# Altium footprint library WR-SMA.PcbLib: 26 footprints (part 2 of 2)
Each footprint in its own frame and in the unit in brackets; x right, y up, seen from the top. Pads: shape width x height; smd on the part's side, far side on the other; paste and mask are expansions set on the pad; w line width, h text height; cw(c..) or ccw(c..) is an arc to the next point about the centre after c.
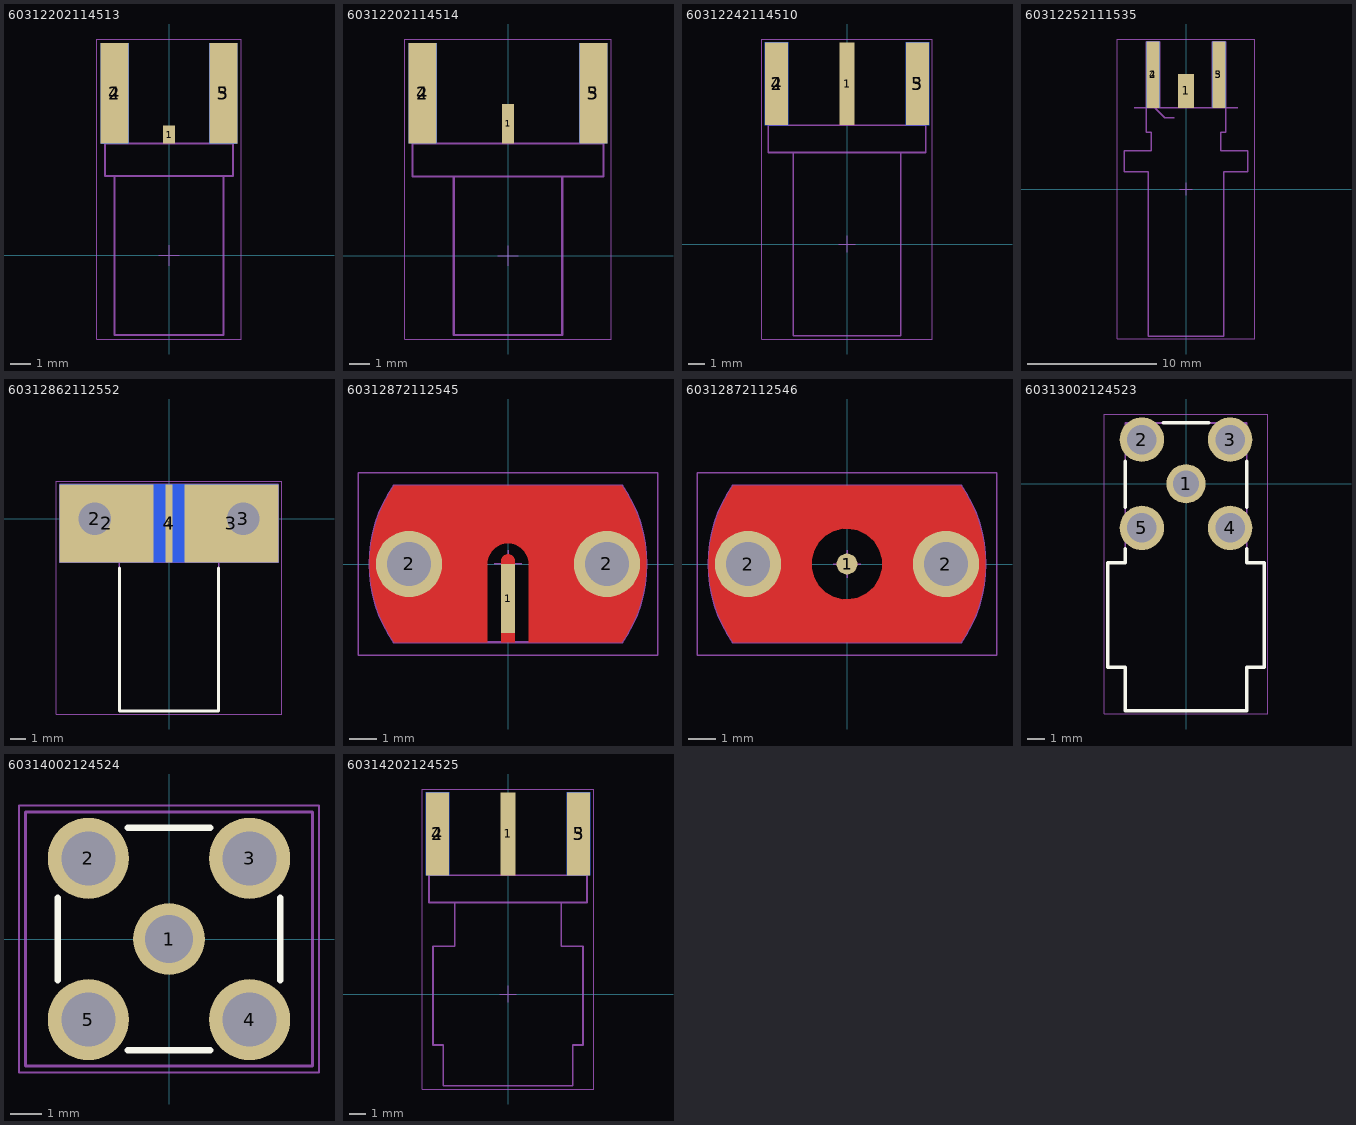
[diagram p1: the footprints below, top view; thin cyan lines are the x and y axes]

## 60312202114513 [mm] "SMA PCB End Launch Jack Flat Tab  6.35SQ Flange for 1.6mm PCB"
height 6.35
pads (5):
  rect 0.61x0.9 smd: 1(0,6)
  rect 1.4x5 smd: 2(-2.7,8.05) 3(2.7,8.05)
  rect 1.4x5 smd far side: 4(-2.7,8.05) 5(2.7,8.05)
Top Designator:
  text ".Designator" at -7.498,-0.5 h1.5
Top Notes (Mech5):
  lines w0.1: -3.175,5.55 3.175,5.55
  text "PCB Thickness 1.6mm" at -3.6,-4.65 h0.8
  text "PCB End" at -1.4,4.85 h0.8
Top Component Outline:
  lines w0.1: -2.7,3.95 -2.7,-3.95 2.7,-3.95 2.7,3.95 ; -3.175,3.95 -3.175,10.25 -2.175,10.25 -2.175,5.55 -0.255,5.55 -0.255,6.35 0.255,6.35 0.255,5.55 2.175,5.55 2.175,10.25 3.175,10.25 3.175,3.95 -3.175,3.95
Top Courtyard:
  lines w0.05: -0.5,0 0.5,0 ; 0,-0.5 0,0.5 ; -3.6,-4.15 -3.6,10.75 3.6,10.75 3.6,-4.15 -3.6,-4.15
3D body "60312202114513.stp": height 3.34, standoff -3.01, extent -3.175,-3.95 3.175,10.25

## 60312202114514 [mm] "SMA PCB End Launch Jack Flat  Tab for 1.6mm PCB"
height 7.92
pads (5):
  rect 0.61x1.97 smd: 1(0,6.57)
  rect 1.4x5 smd: 2(-4.25,8.085) 3(4.25,8.085)
  rect 1.4x5 smd far side: 4(-4.25,8.085) 5(4.25,8.085)
Top Designator:
  text ".Designator" at -7.498,-0.5 h1.5
Top Notes (Mech5):
  lines w0.1: -4.76,5.585 4.76,5.585
  text "PCB Thickness 1.6mm" at -3.7,-4.615 h0.8
  text "PCB End" at -1.5,4.885 h0.8
Top Component Outline:
  lines w0.1: -2.7,3.945 -2.7,-3.945 2.7,-3.945 2.7,3.945 ; -4.76,3.945 4.76,3.945 4.76,10.345 3.74,10.345 3.74,5.585 0.255,5.585 0.255,7.485 -0.255,7.485 -0.255,5.585 -3.74,5.585 -3.74,10.345 -4.76,10.345 -4.76,3.945
Top Courtyard:
  lines w0.05: -0.5,0 0.5,0 ; 0,-0.5 0,0.5 ; -5.15,-4.145 -5.15,10.785 5.15,10.785 5.15,-4.145 -5.15,-4.145
3D body "60312202114514.stp": height 4.08, standoff -3.85, extent -4.76,-3.945 4.76,10.345

## 60312242114510 [mm] "SMA PCB End Launch Jack Round  Post Rear Mount Bulkhead for  1.6mm PCB"
height 9.52
pads (5):
  rect 0.9x5 smd: 1(0,9.675)
  rect 1.4x5 smd: 2(-4.25,9.675) 3(4.25,9.675)
  rect 1.4x5 smd far side: 4(-4.25,9.675) 5(4.25,9.675)
Top Designator:
  text ".Designator" at -7.498,-0.5 h1.5
Top Notes (Mech5):
  lines w0.1: -4.76,7.175 4.76,7.175
  text "PCB Thickness 1.6mm" at -3.6,-6.325 h0.8
  text "PCB End" at -1.3,6.475 h0.8
Top Component Outline:
  lines w0.1: -3.25,5.525 -3.25,-5.525 3.25,-5.525 3.25,5.525 ; -4.76,5.525 4.76,5.525 4.76,11.925 3.74,11.925 3.74,7.175 0.38,7.175 0.38,11.925 -0.38,11.925 -0.38,7.175 -3.74,7.175 -3.74,11.925 -4.76,11.925 -4.76,5.525
Top Courtyard:
  lines w0.05: -0.5,0 0.5,0 ; 0,-0.5 0,0.5 ; -5.15,-5.725 5.15,-5.725 5.15,12.375 -5.15,12.375 -5.15,-5.725
3D body "60312242114510.stp": height 5.5, standoff -4.7, extent -5.1,-5.525 5.1,11.925

## 60312252111535 [mm] "SMA End launch PCB Bulkhead Jack"
height 9.5
pads (5):
  rect 1.2x2.6 smd: 1(0,7.57)
  rect 1.02x5.1 smd: 2(-2.54,8.82) 3(2.54,8.82)
  rect 1.02x5.1 smd far side: 4(-2.54,8.82) 5(2.54,8.82)
Top Designator:
  text ".Designator" at -7.498,-0.5 h1.5
Top Notes (Mech5):
  lines w0.1: -4,6.27 4,6.27 ; -2.4,6.27 -1.63,5.5 -0.9,5.5
  text "PCB Thickness 1.6mm" at -5.8,-12.605 h0.8
  text "PCB End" at -0.6,4.995 h0.8
Top Component Outline:
  lines w0.1: -4.75,1.32 -4.75,2.97 -2.7,2.97 -2.7,4.37 -3.05,4.37 -3.05,11.38 -2.03,11.38 -2.03,6.27 -0.255,6.27 -0.255,8.82 0.255,8.82 0.255,6.27 2.03,6.27 2.03,11.38 3.05,11.38 3.05,4.37 2.7,4.37 2.7,2.97 4.75,2.97 4.75,1.32 2.925,1.32 2.925,-11.38 -2.925,-11.38 -2.925,1.32 -4.75,1.32
Top Courtyard:
  lines w0.05: -0.5,0 0.5,0 ; 0,-0.5 0,0.5 ; -5.3,-11.58 -5.3,11.58 5.3,11.58 5.3,-11.58 -5.3,-11.58
3D body "60312252111535.stp": height 5.36, standoff -4.84, extent -5.1,-11.38 5.1,11.38

## 60312862112552 [mm]
pads (6):
  rect 0.48x5 smd paste-2539.97: 1(0,-0.3)
  round 3 hole 2.1: 2(-4.75,0) 3(4.75,0)
  rect 6x5 smd paste-2539.97: 2(-4,-0.3) 3(4,-0.3)
  rect 14x5 smd far side paste-2539.97: 4(0,-0.3)
Top Overlay:
  lines w0.2: -3.175,-3.15 -3.175,-12.3 3.175,-12.3 3.175,-3.15
Bottom Overlay:
  lines w0.2: -3.175,-3.15 -3.175,-12.3 3.175,-12.3 3.175,-3.15
Top Designator:
  text ".Designator" at -7.498,-0.5 h1.5
Top Component Outline:
  lines w0.1: -3.175,-2.8 -3.175,-12.3 3.175,-12.3 3.175,-2.8 ; -1,-2.8 -1,2.2 -7,2.2 -7,-2.8 7,-2.8 7,2.2 1,2.2 1,-2.8 ; -0.125,-2.8 -0.125,-2 0.125,-2 0.125,-2.8
Bottom Component Outline:
  lines w0.1: -3.175,-2.8 -3.175,-12.3 3.175,-12.3 3.175,-2.8 ; -7,-2.8 -7,2.2 7,2.2 7,-2.8 -7,-2.8
Top Courtyard:
  lines w0.05: -7.2,-12.5 7.2,-12.5 7.2,2.4 -7.2,2.4 -7.2,-12.5
Top Component Center:
  lines w0.05: -0.5,0 0.5,0 ; 0,-0.5 0,0.5
3D body "60312862112552.stp": height 4.77, standoff -5.96, extent -7,-12.3 7,2.2

## 60312872112545 [mm]
pads (3):
  rect 0.5x2.5 smd paste-2539.97: 1(0,-1.25)
  round 2.4 hole 1.6: 2(-3.58,0) 2(3.58,0)
Top Layer:
  region: -0.25,-2.83 -0.25,0.1 -0.25,0.15 -0.212,0.242 -0.142,0.312 -0.05,0.35 0.05,0.35 0.142,0.312 0.212,0.242 0.25,0.15 0.25,0.1 0.25,-2.83
  region: -4.122,-2.83 -4.264,-2.623 -4.505,-2.183 -4.701,-1.721 -4.85,-1.242 -4.95,-0.75 -5,-0.251 -5,0.251 -4.95,0.75 -4.85,1.242 -4.701,1.721 -4.505,2.183 -4.264,2.623 -4.122,2.83 4.122,2.83 4.264,2.623 4.505,2.183 4.701,1.721 4.85,1.242 4.95,0.75 5,0.251 5,-0.251 4.95,-0.75 4.85,-1.242 4.701,-1.721 4.505,-2.183 4.264,-2.623 4.122,-2.83 0.75,-2.83 0.75,0 0.744,0.098 0.693,0.287 0.595,0.457 0.457,0.595 0.287,0.693 0.098,0.744 -0.097,0.744 -0.287,0.693 -0.456,0.595 -0.595,0.457 -0.692,0.287 -0.743,0.098 -0.75,0 -0.75,-2.83
Top Designator:
  text ".Designator" at -7.498,-0.5 h1.5
Top Component Outline:
  lines w0.1: -4.122,-2.83 cw(c0,0) -4.122,2.83 4.122,2.83 cw(c0,0) 4.122,-2.83 -4.122,-2.83
Top Courtyard:
  lines w0.05: -5.429,-3.3 -5.429,3.3 5.429,3.3 5.429,-3.3 -5.429,-3.3
Top Component Center:
  lines w0.05: -0.5,0 0.5,0 ; 0,-0.5 0,0.5
3D body "60312872112545.stp": height 9.76, standoff -2.59, extent -5.229,-3.1 5.229,3.1

## 60312872112546 [mm]
pads (3):
  round 0.76 smd paste-2539.97: 1(0,0)
  round 2.4 hole 1.6: 2(-3.58,0) 2(3.58,0)
Top Layer:
  region: -4.122,-2.83 0,-2.83 0,-1.285 -0.168,-1.274 -0.492,-1.187 -0.782,-1.019 -1.019,-0.782 -1.187,-0.492 -1.274,-0.168 -1.274,0.168 -1.187,0.492 -1.019,0.782 -0.782,1.019 -0.492,1.187 -0.168,1.274 0,1.285 0,2.83 -4.122,2.83 -4.264,2.623 -4.505,2.183 -4.701,1.721 -4.85,1.242 -4.95,0.75 -5,0.251 -5,-0.251 -4.95,-0.75 -4.85,-1.242 -4.701,-1.721 -4.505,-2.183 -4.264,-2.623 -4.122,-2.83
  region: -0.14,-2.83 -0.14,-1.285 -0.139,-1.277 0.04,-1.284 0.394,-1.223 0.716,-1.067 0.983,-0.828 1.173,-0.524 1.272,-0.179 1.272,0.179 1.173,0.524 0.983,0.828 0.716,1.067 0.394,1.223 0.04,1.284 -0.139,1.277 -0.14,1.285 -0.14,2.83 4.122,2.83 4.264,2.623 4.505,2.183 4.701,1.721 4.85,1.242 4.95,0.75 5,0.251 5,-0.251 4.95,-0.75 4.85,-1.242 4.701,-1.721 4.505,-2.183 4.264,-2.623 4.122,-2.83
Top Designator:
  text ".Designator" at -7.498,-0.5 h1.5
Top Component Outline:
  lines w0.1: -4.122,-2.83 cw(c0,0) -4.122,2.83 4.122,2.83 cw(c0,0) 4.122,-2.83 -4.122,-2.83
Top Courtyard:
  lines w0.05: -5.429,-3.3 5.429,-3.3 5.429,3.3 -5.429,3.3 -5.429,-3.3
Top Component Center:
  lines w0.05: -0.5,0 0.5,0 ; 0,-0.5 0,0.5
3D body "60312872112546.stp": height 9.76, standoff -2.59, extent -5.229,-3.1 5.229,3.1

## 60313002124523 [mm] "SMA PCB THT Plug Right Angle"
height 9.86
pads (5):
  round 2.25 hole 1.5: 1(0,0)
  round 2.55 hole 1.7: 2(-2.54,2.54) 3(2.54,2.54) 4(2.54,-2.54) 5(-2.54,-2.54)
Top Overlay:
  lines w0.2: -3.5,-3.75 -3.5,-4.55 -4.5,-4.55 -4.5,-10.55 -3.5,-10.55 -3.5,-13.05 3.5,-13.05 3.5,-10.55 4.5,-10.55 4.5,-4.55 3.5,-4.55 3.5,-3.75 ; -3.5,-1.35 -3.5,1.3 ; -1.3,3.5 1.3,3.5 ; 3.5,-1.35 3.5,1.3
Top Designator:
  text ".Designator" at -7.498,-0.5 h1.5
Top Component Outline:
  lines w0.1: -4.5,-10.55 -3.5,-10.55 -3.5,-13.05 3.5,-13.05 3.5,-10.55 4.5,-10.55 4.5,-4.55 3.5,-4.55 3.5,-3.5 3.5,3.5 -3.5,3.5 -3.5,-3.5 -3.5,-4.55 -4.5,-4.55 -4.5,-10.55
Top Courtyard:
  lines w0.05: -0.5,0 0.5,0 ; 0,-0.5 0,0.5 ; -4.7,-13.25 -4.7,4.015 4.7,4.015 4.7,-13.25 -4.7,-13.25
3D body "60313002124523.stp": height 10.19, standoff -3.91, extent -4.519,-13.05 4.519,3.5

## 60314002124524 [mm] "SMA PCB THT Plug Straight"
height 12.66
pads (5):
  round 2.25 hole 1.5: 1(0,0)
  round 2.55 hole 1.7: 2(-2.54,2.54) 3(2.54,2.54) 4(2.54,-2.54) 5(-2.54,-2.54)
Top Overlay:
  lines w0.2: -3.5,-1.3 -3.5,1.3 ; -1.3,-3.5 1.3,-3.5 ; -1.3,3.5 1.3,3.5 ; 3.5,-1.3 3.5,1.3
Top Designator:
  text ".Designator" at -7.498,-0.5 h1.5
Top Component Outline:
  lines w0.1: -4.52,-4 -4.52,4 4.52,4 4.52,-4 -4.52,-4
Top Courtyard:
  lines w0.05: -0.5,0 0.5,0 ; 0,-0.5 0,0.5 ; -4.72,-4.2 -4.72,4.2 4.72,4.2 4.72,-4.2 -4.72,-4.2
3D body "60314002124524.stp": height 12.69, standoff -3.91, extent -4.519,-4 4.519,4

## 60314202124525 [mm] "SMA PCB End Launch Plug Round  Post for 1.6mm PCB"
height 7.92
pads (5):
  rect 0.9x5 smd: 1(0,9.655)
  rect 1.4x5 smd: 2(-4.25,9.655) 3(4.25,9.655)
  rect 1.4x5 smd far side: 4(-4.25,9.655) 5(4.25,9.655)
Top Designator:
  text ".Designator" at -7.498,-0.5 h1.5
Top Notes (Mech5):
  lines w0.1: -4.76,7.155 4.76,7.155
  text "PCB End" at -1.4,6.455 h0.8
  text "PCB Thickness 1.6mm" at -3.5,-6.145 h0.8
Top Component Outline:
  lines w0.1: -3.21,5.515 -3.21,2.885 -4.52,2.885 -4.52,-3.065 -3.9,-3.065 -3.9,-5.515 3.9,-5.515 3.9,-3.065 4.52,-3.065 4.52,2.885 3.21,2.885 3.21,5.515 ; -4.76,5.515 4.76,5.515 4.76,11.915 3.74,11.915 3.74,7.155 0.38,7.155 0.38,11.915 -0.38,11.915 -0.38,7.155 -3.74,7.155 -3.74,11.915 -4.76,11.915 -4.76,5.515
Top Courtyard:
  lines w0.05: -0.5,0 0.5,0 ; 0,-0.5 0,0.5 ; -5.15,-5.715 5.15,-5.715 5.15,12.355 -5.15,12.355 -5.15,-5.715
3D body "60314202124525.stp": height 4.4, standoff -3.6, extent -4.76,-5.515 4.76,11.915